# Altium footprint library CB3-ECB_PCB.PcbLib: 45 footprints (part 3 of 3)
Each footprint in its own frame and in the unit in brackets; x right, y up, seen from the top. Pads: shape width x height; smd on the part's side, far side on the other; paste and mask are expansions set on the pad; w line width, h text height; cw(c..) or ccw(c..) is an arc to the next point about the centre after c.
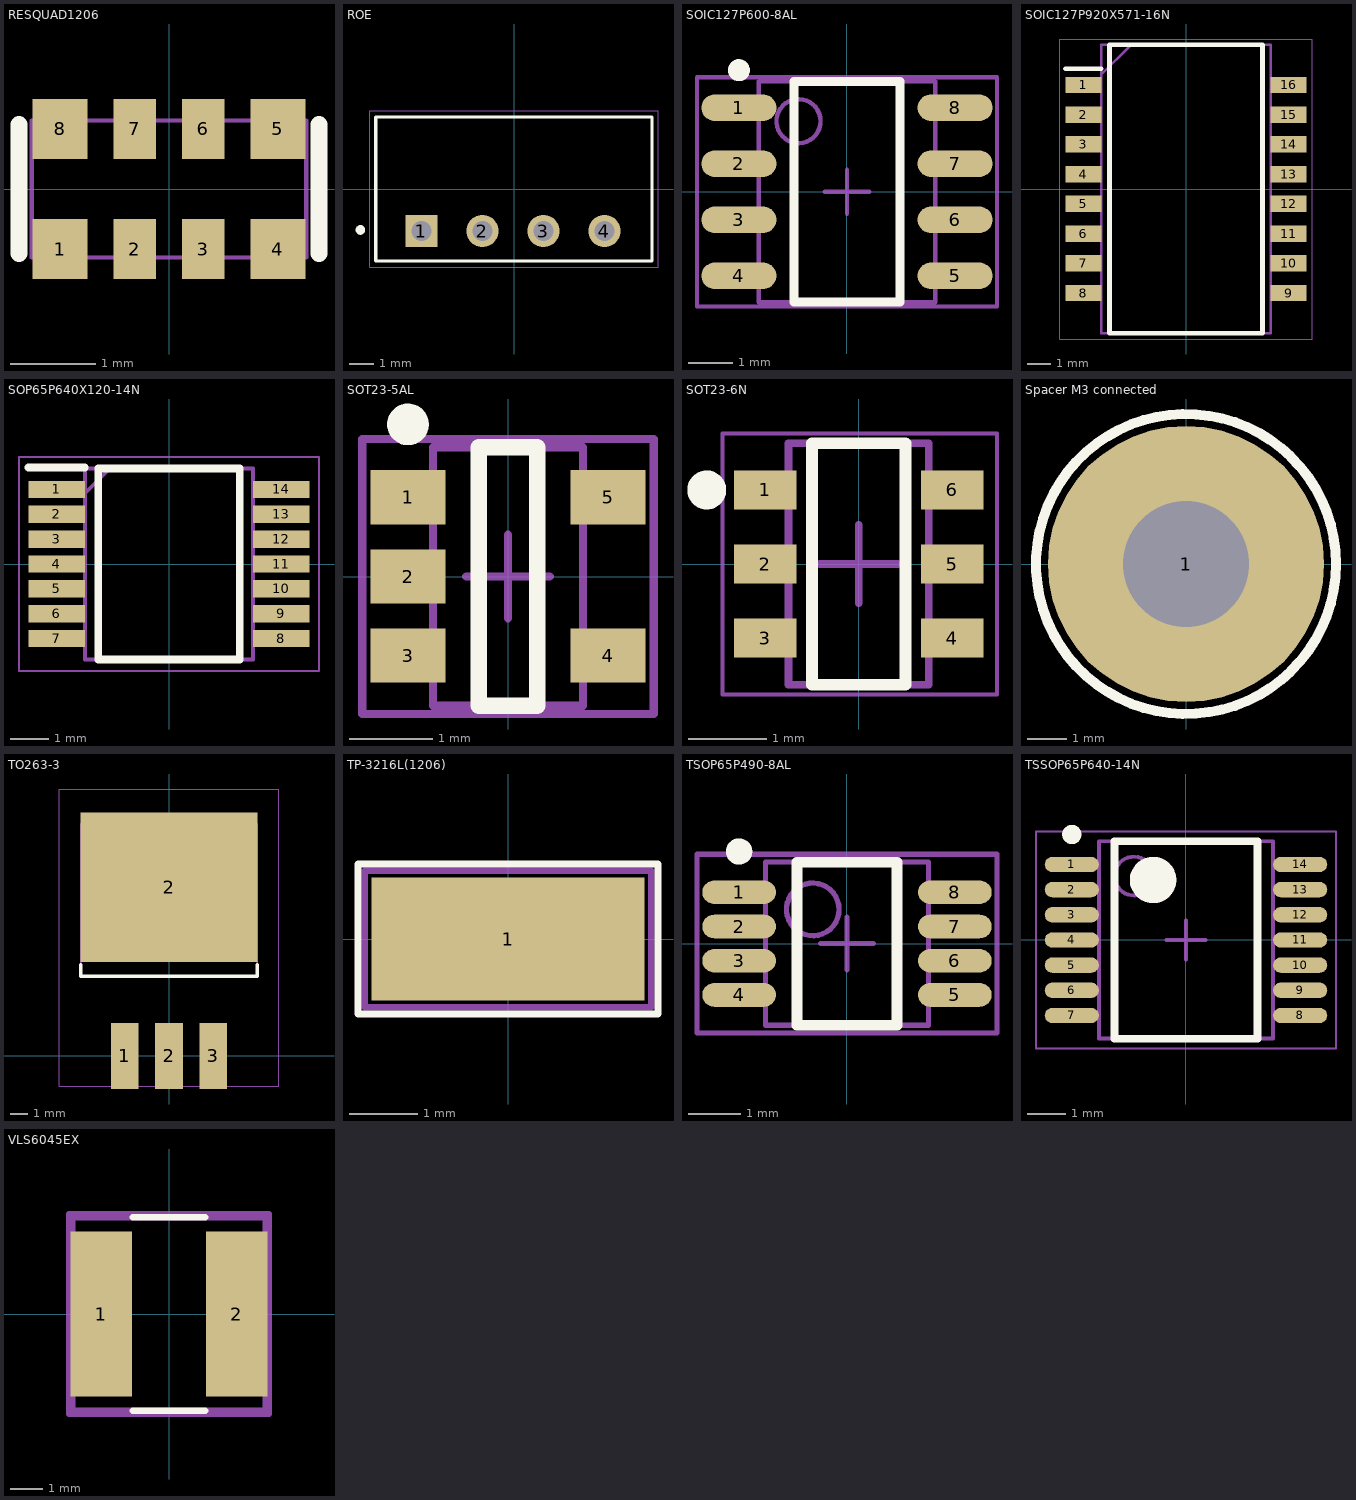
[diagram p2: the footprints below, top view; thin cyan lines are the x and y axes]

## RESQUAD1206 [mm] "General 1206 Quad Resisor Array Footprint, Body 3.2x1.6mm"
pads (8):
  rect 0.64x0.7 smd: 1(-1.27,-0.7) 4(1.27,-0.7) 5(1.27,0.7) 8(-1.27,0.7)
  rect 0.5x0.7 smd: 2(-0.4,-0.7) 3(0.4,-0.7) 6(0.4,0.7) 7(-0.4,0.7)
Top Overlay:
  lines w0.2: -1.75,-0.75 -1.75,0.75 ; 1.75,-0.75 1.75,0.75
Mechanical 15:
  lines w0.051: -1.6,-0.8 -1.6,0.8 1.6,0.8 1.6,-0.8 -1.6,-0.8
3D body: height 0.4, standoff 0, extent -1.5,-0.75 1.5,0.75

## ROE [mm] "RECOM DC/DC Converter Series - ROE Series Footprint"
pads (4):
  rect 1.338x1.338 hole 0.83: 1(-3.875,-1.75)
  round 1.338 hole 0.83: 2(-1.335,-1.75) 3(1.205,-1.75) 4(3.745,-1.75)
Top Overlay:
  circle w0.2: c-6.415,-1.705 r0.1
  lines w0.127: -5.775,-3 -5.775,3 5.725,3 5.725,-3 -5.775,-3
Mechanical 15:
  lines w0.05: -6.025,-3.25 -6.025,3.25 5.975,3.25 5.975,-3.25 -6.025,-3.25
3D body: height 10, standoff 0, extent -5.775,-3 5.725,3

## SOIC127P600-8AL [mm] "General SOIC Footprint, 8-Leads, Body 4.90x3.90mm, Pitch 1.27mm, IPC High Density"
height 2.72
pads (8):
  oval 1.7x0.6 smd: 1(-2.45,1.905) 2(-2.45,0.635) 3(-2.45,-0.635) 4(-2.45,-1.905) 5(2.45,-1.905) 6(2.45,-0.635) 7(2.45,0.635) 8(2.45,1.905)
Top Overlay:
  circle w0.25: c-2.45,2.755 r0.125
  lines w0.2: -1.2,-2.5 1.2,-2.5 1.2,2.5 -1.2,2.5 -1.2,-2.5
Mechanical 13:
  circle w0.1: c-1.1,1.6 r0.5
  lines w0.1: -2,-2.5 2,-2.5 2,2.5 -2,2.5 -2,-2.5
Mechanical 15:
  lines w0.1: -0.5,0 0.5,0 ; 0,-0.5 0,0.5 ; -3.4,-2.6 3.4,-2.6 3.4,2.6 -3.4,2.6 -3.4,-2.6
3D body "SOIC127P600X175-8N.step": height 1.75, standoff 0, extent -3,-2.5 3,2.5

## SOIC127P920X571-16N [mm]
pads (16):
  rect 1.53x0.7 smd: 1(-4.385,4.445) 2(-4.385,3.175) 3(-4.385,1.905) 4(-4.385,0.635) 5(-4.385,-0.635) 6(-4.385,-1.905) 7(-4.385,-3.175) 8(-4.385,-4.445) 9(4.385,-4.445) 10(4.385,-3.175) 11(4.385,-1.905) 12(4.385,-0.635) 13(4.385,0.635) 14(4.385,1.905) 15(4.385,3.175) 16(4.385,4.445)
Top Overlay:
  lines w0.2: -5.15,5.145 -3.62,5.145 ; -3.27,-6.16 -3.27,6.16 3.27,6.16 3.27,-6.16 -3.27,-6.16
Mechanical 13:
  lines w0.1: -3.62,4.89 -2.35,6.16 ; -3.62,-6.16 -3.62,6.16 3.62,6.16 3.62,-6.16 -3.62,-6.16
Mechanical 15:
  lines w0.05: -5.4,-6.41 -5.4,6.41 5.4,6.41 5.4,-6.41 -5.4,-6.41
3D body "S558-5999-U7-F.stp": height 5.71, standoff 0, extent -4.62,-6.16 4.62,6.16

## SOP65P640X120-14N [mm]
pads (14):
  rect 1.475x0.45 smd: 1(-2.938,1.95) 2(-2.938,1.3) 3(-2.938,0.65) 4(-2.938,0) 5(-2.938,-0.65) 6(-2.938,-1.3) 7(-2.938,-1.95) 8(2.938,-1.95) 9(2.938,-1.3) 10(2.938,-0.65) 11(2.938,0) 12(2.938,0.65) 13(2.938,1.3) 14(2.938,1.95)
Top Overlay:
  lines w0.2: -3.675,2.525 -2.2,2.525 ; -1.85,-2.5 -1.85,2.5 1.85,2.5 1.85,-2.5 -1.85,-2.5
Mechanical 15:
  lines w0.1: -2.2,1.85 -1.55,2.5 ; -2.2,-2.5 -2.2,2.5 2.2,2.5 2.2,-2.5 -2.2,-2.5
Mechanical 20:
  lines w0.05: -3.925,-2.8 -3.925,2.8 3.925,2.8 3.925,-2.8 -3.925,-2.8

## SOT23-5AL [mm] "General SOT23-5 Footprint, 5-Leads, Body 2.90x1.60mm, Pitch 0.95mm, IPC High Density"
height 1.45
pads (5):
  rect 0.9x0.65 smd: 1(-1.2,0.95) 2(-1.2,0) 3(-1.2,-0.95) 4(1.2,-0.95) 5(1.2,0.95)
Top Overlay:
  circle w0.25: c-1.2,1.825 r0.125
  lines w0.2: -0.35,-1.55 0.35,-1.55 0.35,1.55 -0.35,1.55 -0.35,-1.55
Mechanical 13:
  lines w0.1: -0.9,-1.55 -0.9,1.55 0.9,1.55 0.9,-1.55 -0.9,-1.55
Mechanical 15:
  lines w0.1: -0.5,0 0.5,0 ; 0,-0.5 0,0.5 ; -1.75,-1.65 -1.75,1.65 1.75,1.65 1.75,-1.65 -1.75,-1.65
3D body: height 1.45, standoff 0, extent -0.9,-1.55 0.9,1.55

## SOT23-6N [mm] "General SOT23-6 Footprint, 6-Leads, Body 2.90x2.90mm, Pitch 0.95mm, IPC Medium Density"
pads (6):
  rect 0.8x0.5 smd: 1(-1.2,0.95) 2(-1.2,0) 3(-1.2,-0.95) 4(1.2,-0.95) 5(1.2,0) 6(1.2,0.95)
Top Overlay:
  circle w0.25: c-1.95,0.95 r0.125
  lines w0.15: -0.6,-1.55 -0.6,1.55 0.6,1.55 0.6,-1.55 -0.6,-1.55
Mechanical 13:
  lines w0.1: -0.9,-1.55 0.9,-1.55 0.9,1.55 -0.9,1.55 -0.9,-1.55
Mechanical 15:
  lines w0.05: -1.75,-1.675 1.775,-1.675 1.775,1.675 -1.75,1.675 -1.75,-1.675
  lines w0.1: -0.5,0 0.5,0 ; 0,-0.5 0,0.5
3D body: height 1.2, standoff 0.1, extent -0.9,-1.55 0.9,1.55

## Spacer M3 connected [mm] "Hole and pad for spacer M3, Sw=5.5mm"
pads (1):
  round 7 hole 3.2: 1(0,0)
Top Overlay:
  circle w0.254: c0,0 r3.8

## TO263-3 [mm] "General TO263-3 Footprint, 3-Leads, Body 10.00x15.00mm, Pitch 2.54mm (D2PAK)"
pads (4):
  rect 1.6x3.8 smd: 1(-2.54,0) 2(0,0) 3(2.54,0)
  rect 10.2x8.6 smd: 2(0,9.7)
Top Overlay:
  lines w0.2: -5.075,5.25 -5.075,4.58 5.075,4.58 5.075,5.25
Mechanical 13:
  lines w0.1: -5.075,4.58 -5.075,13.35 5.075,13.35 5.075,4.58 -5.075,4.58
Mechanical 15:
  lines w0.05: -6.3,-1.75 6.3,-1.75 6.3,15.35 -6.3,15.35 -6.3,-1.75
3D body "TO263-3-1.stp": height 4.22, standoff 0, extent -4.911,-1.061 4.911,13.541

## TP-3216L(1206) [mm] "General 1206 Testpoint Footprint, 3.2x1.6mm, IPC High Density"
pads (1):
  rect 4x1.8 smd: 1(0,0)
Top Overlay:
  lines w0.1: -2.2,-1.1 -2.2,1.1 2.2,1.1 2.2,-1.1 -2.2,-1.1
Mechanical 13:
  lines w0.1: -0.85,-0.475 0.85,-0.475 0.85,0.475 -0.85,0.475 -0.85,-0.475
Mechanical 15:
  lines w0.1: -0.475,0 0.475,0 ; 0,-0.475 0,0.475 ; -2.1,-1 2.1,-1 2.1,1 -2.1,1 -2.1,-1
3D body "c-1625854-1-ba-3d.stp": height 1.28, standoff 0.03, extent -1.6,-0.8 1.6,0.8

## TSOP65P490-8AL [mm] "General TSOP Footprint, 8-Leads, Body 3.00x3.00mm, Pitch 0.65mm, IPC High Density"
pads (8):
  oval 1.4x0.45 smd: 1(-2.05,0.975) 2(-2.05,0.325) 3(-2.05,-0.325) 4(-2.05,-0.975) 5(2.05,-0.975) 6(2.05,-0.325) 7(2.05,0.325) 8(2.05,0.975)
Top Overlay:
  circle w0.25: c-2.05,1.75 r0.125
  lines w0.2: -0.95,-1.55 0.95,-1.55 0.95,1.55 -0.95,1.55 -0.95,-1.55
Mechanical 13:
  circle w0.1: c-0.65,0.65 r0.5
  lines w0.1: -1.55,-1.55 -1.55,1.55 1.55,1.55 1.55,-1.55 -1.55,-1.55
Mechanical 15:
  lines w0.1: -0.5,0 0.5,0 ; 0,-0.5 0,0.5 ; -2.85,-1.7 2.85,-1.7 2.85,1.7 -2.85,1.7 -2.85,-1.7
3D body "TSOP65P490X110-8N.step": height 1.1, standoff 0, extent -2.45,-1.55 2.45,1.55

## TSSOP65P640-14N [mm] "General TSSOP Footprint, 14-Leads, Body 5.00x4.50mm, Pitch 1.00mm, IPC Medium Density"
pads (14):
  oval 1.4x0.396 smd: 1(-2.95,1.95) 2(-2.95,1.3) 3(-2.95,0.65) 4(-2.95,0) 5(-2.95,-0.65) 6(-2.95,-1.3) 7(-2.95,-1.95) 8(2.95,-1.95) 9(2.95,-1.3) 10(2.95,-0.65) 11(2.95,0) 12(2.95,0.65) 13(2.95,1.3) 14(2.95,1.95)
Top Overlay:
  circle w0.6: c-0.85,1.55 r0.3
  circle w0.25: c-2.95,2.725 r0.125
  lines w0.2: -1.85,-2.55 1.85,-2.55 1.85,2.55 -1.85,2.55 -1.85,-2.55
Mechanical 13:
  circle w0.1: c-1.35,1.65 r0.5
  lines w0.1: -2.25,-2.55 2.25,-2.55 2.25,2.55 -2.25,2.55 -2.25,-2.55
Mechanical 15:
  lines w0.05: -3.875,-2.8 3.875,-2.8 3.875,2.8 -3.875,2.8 -3.875,-2.8
  lines w0.1: -0.5,0 0.5,0 ; 0,-0.5 0,0.5
3D body: height 1.2, standoff 0.05, extent -2.25,-2.55 2.25,2.55

## VLS6045EX [mm] "VLS-EX series -  TDK Inductors for power circuits"
height 4.5
pads (2):
  rect 1.9x5.1 smd paste+0 mask+0: 1(-2.1,0) 2(2.1,0)
Top Overlay:
  lines w0.2: -1.125,-3 1.125,-3 ; -1.125,3 1.125,3
Mechanical 13:
  lines w0.2: -3,-3 3,-3 3,3 -3,3 -3,-3
Mechanical 15:
  lines w0.2: -3.1,-3.1 -3.1,3.1 3.1,3.1 3.1,-3.1 -3.1,-3.1
3D body "VLS6045EX-3R3N.step": height 4.5, standoff 0, extent -3,-3 3,3